# Altium schematic symbol library EL-sense_Resistor.SchLib: 6 symbols
Pins are listed as number, name and electrical type; pins without a type are passive.

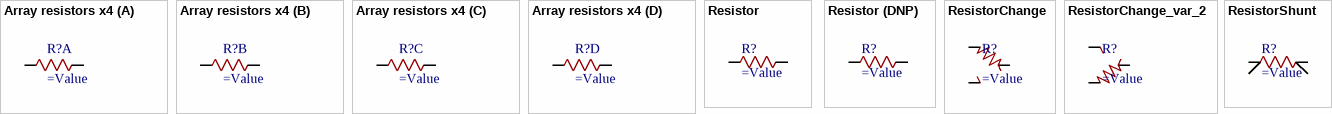
[diagram p0: symbols Array resistors x4 to ResistorShunt]

## Array resistors x4
designator R?
part A pins: 1, 8
part B pins: 2, 7
part C pins: 3, 6
part D pins: 4, 5

## Resistor
designator R?
pins: 1, 2

## Resistor (DNP)
designator R?  (no BOM)
pins: 1, 2

## ResistorChange
designator R?
pins: 1, 2, 3

## ResistorChange_var_2
designator R?
pins: 1, 2, 3

## ResistorShunt
designator R?
pins: 1, 2, IN+, IN-